# EAGLE library part 50223-024 (library con-aces-50223-series)
ACES CONNECTORS 50223 SERIES ACES Connecors 50223
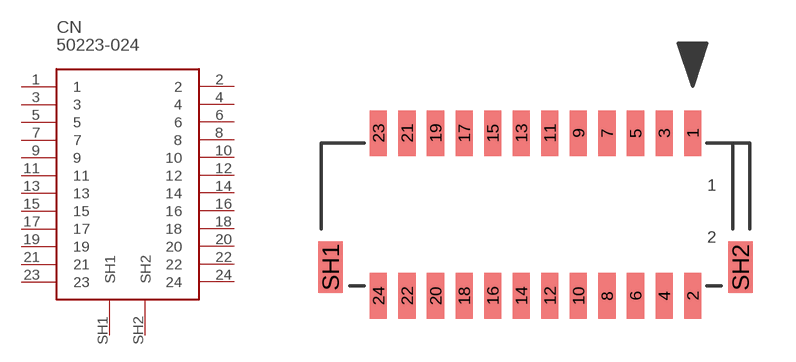
[diagram p6: symbol with the pads of 50223-024; footprint 50223-024]

Designator prefix CN

## 50223-024  [50223-024]
1  1
2  2
3  3
4  4
5  5
6  6
7  7
8  8
9  9
10  10
11  11
12  12
13  13
14  14
15  15
16  16
17  17
18  18
19  19
20  20
21  21
22  22
23  23
24  24
SH1  SH1
SH2  SH2

## Footprint 50223-024 (pad centres in mm)
smd 0.6 x 1.6: 1 5.5,3.35; 2 5.5,-2.35; 3 4.5,3.35; 4 4.5,-2.35; 5 3.5,3.35; 6 3.5,-2.35; 7 2.5,3.35; 8 2.5,-2.35; 9 1.5,3.35; 10 1.5,-2.35; 11 0.5,3.35; 12 0.5,-2.35; 13 -0.5,3.35; 14 -0.5,-2.35; 15 -1.5,3.35; 16 -1.5,-2.35; 17 -2.5,3.35; 18 -2.5,-2.35; 19 -3.5,3.35; 20 -3.5,-2.35; 21 -4.5,3.35; 22 -4.5,-2.35; 23 -5.5,3.35; 24 -5.5,-2.35
smd 0.85 x 1.8: SH1 -7.175,-1.35; SH2 7.175,-1.35